# Altium schematic symbol library SCH - MCU - INFINEON - INFINEON MB9BF467NBGL BGA-112.SchLib: 1 symbol
Pins are listed as number, name and electrical type; pins without a type are passive.

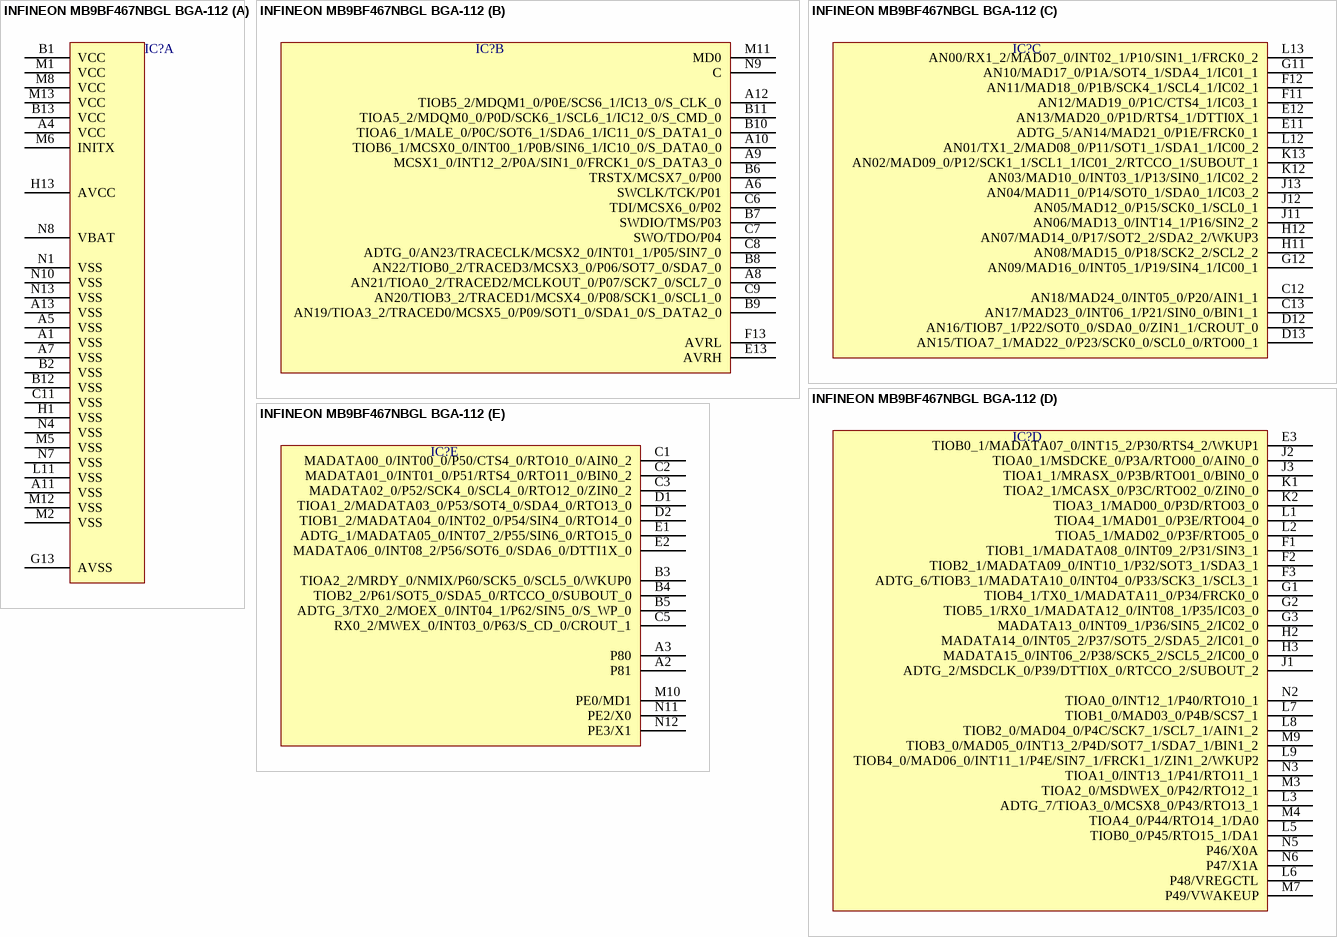
[diagram p0: symbol INFINEON MB9BF467NBGL BGA-112]

## INFINEON MB9BF467NBGL BGA-112
designator IC?  (value not drawn)
part A pins: A1 VSS, A4 VCC, A5 VSS, A7 VSS, A11 VSS, A13 VSS, B1 VCC, B2 VSS, B12 VSS, B13 VCC, C11 VSS, G13 AVSS, H1 VSS, H13 AVCC, L11 VSS, M1 VCC, M2 VSS, M5 VSS, M6 INITX, M8 VCC, M12 VSS, M13 VCC, N1 VSS, N4 VSS, N7 VSS, N8 VBAT, N10 VSS, N13 VSS
part B pins: A6 SWCLK/TCK/P01, A8 AN21/TIOA0_2/TRACED2/MCLKOUT_0/P07/SCK7_0/SCL7_0, A9 MCSX1_0/INT12_2/P0A/SIN1_0/FRCK1_0/S_DATA3_0, A10 TIOB6_1/MCSX0_0/INT00_1/P0B/SIN6_1/IC10_0/S_DATA0_0, A12 TIOB5_2/MDQM1_0/P0E/SCS6_1/IC13_0/S_CLK_0, B6 TRSTX/MCSX7_0/P00, B7 SWDIO/TMS/P03, B8 AN22/TIOB0_2/TRACED3/MCSX3_0/P06/SOT7_0/SDA7_0, B9 AN19/TIOA3_2/TRACED0/MCSX5_0/P09/SOT1_0/SDA1_0/S_DATA2_0, B10 TIOA6_1/MALE_0/P0C/SOT6_1/SDA6_1/IC11_0/S_DATA1_0, B11 TIOA5_2/MDQM0_0/P0D/SCK6_1/SCL6_1/IC12_0/S_CMD_0, C6 TDI/MCSX6_0/P02, C7 SWO/TDO/P04, C8 ADTG_0/AN23/TRACECLK/MCSX2_0/INT01_1/P05/SIN7_0, C9 AN20/TIOB3_2/TRACED1/MCSX4_0/P08/SCK1_0/SCL1_0, E13 AVRH, F13 AVRL, M11 MD0, N9 C
part C pins: C12 AN18/MAD24_0/INT05_0/P20/AIN1_1, C13 AN17/MAD23_0/INT06_1/P21/SIN0_0/BIN1_1, D12 AN16/TIOB7_1/P22/SOT0_0/SDA0_0/ZIN1_1/CROUT_0, D13 AN15/TIOA7_1/MAD22_0/P23/SCK0_0/SCL0_0/RTO00_1, E11 ADTG_5/AN14/MAD21_0/P1E/FRCK0_1, E12 AN13/MAD20_0/P1D/RTS4_1/DTTI0X_1, F11 AN12/MAD19_0/P1C/CTS4_1/IC03_1, F12 AN11/MAD18_0/P1B/SCK4_1/SCL4_1/IC02_1, G11 AN10/MAD17_0/P1A/SOT4_1/SDA4_1/IC01_1, G12 AN09/MAD16_0/INT05_1/P19/SIN4_1/IC00_1, H11 AN08/MAD15_0/P18/SCK2_2/SCL2_2, H12 AN07/MAD14_0/P17/SOT2_2/SDA2_2/WKUP3, J11 AN06/MAD13_0/INT14_1/P16/SIN2_2, J12 AN05/MAD12_0/P15/SCK0_1/SCL0_1, J13 AN04/MAD11_0/P14/SOT0_1/SDA0_1/IC03_2, K12 AN03/MAD10_0/INT03_1/P13/SIN0_1/IC02_2, K13 AN02/MAD09_0/P12/SCK1_1/SCL1_1/IC01_2/RTCCO_1/SUBOUT_1, L12 AN01/TX1_2/MAD08_0/P11/SOT1_1/SDA1_1/IC00_2, L13 AN00/RX1_2/MAD07_0/INT02_1/P10/SIN1_1/FRCK0_2
part D pins: E3 TIOB0_1/MADATA07_0/INT15_2/P30/RTS4_2/WKUP1, F1 TIOB1_1/MADATA08_0/INT09_2/P31/SIN3_1, F2 TIOB2_1/MADATA09_0/INT10_1/P32/SOT3_1/SDA3_1, F3 ADTG_6/TIOB3_1/MADATA10_0/INT04_0/P33/SCK3_1/SCL3_1, G1 TIOB4_1/TX0_1/MADATA11_0/P34/FRCK0_0, G2 TIOB5_1/RX0_1/MADATA12_0/INT08_1/P35/IC03_0, G3 MADATA13_0/INT09_1/P36/SIN5_2/IC02_0, H2 MADATA14_0/INT05_2/P37/SOT5_2/SDA5_2/IC01_0, H3 MADATA15_0/INT06_2/P38/SCK5_2/SCL5_2/IC00_0, J1 ADTG_2/MSDCLK_0/P39/DTTI0X_0/RTCCO_2/SUBOUT_2, J2 TIOA0_1/MSDCKE_0/P3A/RTO00_0/AIN0_0, J3 TIOA1_1/MRASX_0/P3B/RTO01_0/BIN0_0, K1 TIOA2_1/MCASX_0/P3C/RTO02_0/ZIN0_0, K2 TIOA3_1/MAD00_0/P3D/RTO03_0, L1 TIOA4_1/MAD01_0/P3E/RTO04_0, L2 TIOA5_1/MAD02_0/P3F/RTO05_0, L3 ADTG_7/TIOA3_0/MCSX8_0/P43/RTO13_1, L5 TIOB0_0/P45/RTO15_1/DA1, L6 P48/VREGCTL, L7 TIOB1_0/MAD03_0/P4B/SCS7_1, L8 TIOB2_0/MAD04_0/P4C/SCK7_1/SCL7_1/AIN1_2, L9 TIOB4_0/MAD06_0/INT11_1/P4E/SIN7_1/FRCK1_1/ZIN1_2/WKUP2, M3 TIOA2_0/MSDWEX_0/P42/RTO12_1, M4 TIOA4_0/P44/RTO14_1/DA0, M7 P49/VWAKEUP, M9 TIOB3_0/MAD05_0/INT13_2/P4D/SOT7_1/SDA7_1/BIN1_2, N2 TIOA0_0/INT12_1/P40/RTO10_1, N3 TIOA1_0/INT13_1/P41/RTO11_1, N5 P46/X0A, N6 P47/X1A
part E pins: A2 P81, A3 P80, B3 TIOA2_2/MRDY_0/NMIX/P60/SCK5_0/SCL5_0/WKUP0, B4 TIOB2_2/P61/SOT5_0/SDA5_0/RTCCO_0/SUBOUT_0, B5 ADTG_3/TX0_2/MOEX_0/INT04_1/P62/SIN5_0/S_WP_0, C1 MADATA00_0/INT00_0/P50/CTS4_0/RTO10_0/AIN0_2, C2 MADATA01_0/INT01_0/P51/RTS4_0/RTO11_0/BIN0_2, C3 MADATA02_0/P52/SCK4_0/SCL4_0/RTO12_0/ZIN0_2, C5 RX0_2/MWEX_0/INT03_0/P63/S_CD_0/CROUT_1, D1 TIOA1_2/MADATA03_0/P53/SOT4_0/SDA4_0/RTO13_0, D2 TIOB1_2/MADATA04_0/INT02_0/P54/SIN4_0/RTO14_0, E1 ADTG_1/MADATA05_0/INT07_2/P55/SIN6_0/RTO15_0, E2 MADATA06_0/INT08_2/P56/SOT6_0/SDA6_0/DTTI1X_0, M10 PE0/MD1, N11 PE2/X0, N12 PE3/X1